# EAGLE library part LM305 (library ic)
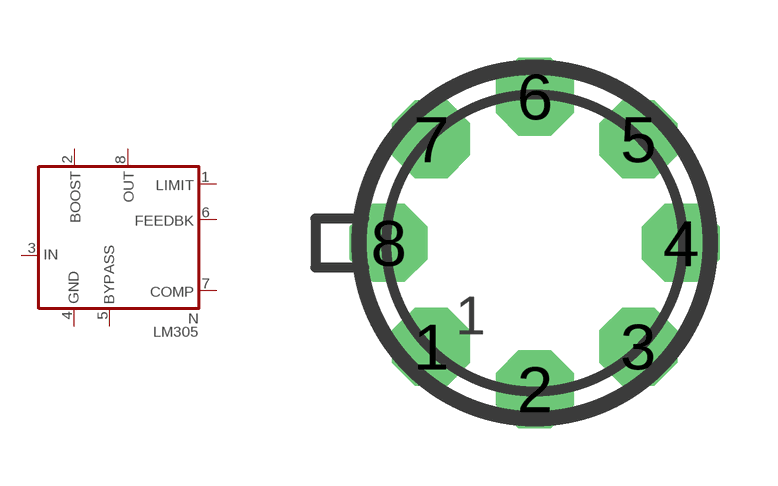
[diagram p37: symbol with the pads of TO99_8N; footprint TO99_8N]

Designator prefix N

## LM305  [TO99_8N]
1  LIMIT
2  BOOST  out
3  IN  pwr
4  GND
5  BYPASS
6  FEEDBK  in
7  COMP
8  OUT  out

## Footprint TO99_8N (pad centres in mm)
drill 0.813 pad 2.032 octagon: 1 -2.699,-2.699; 2 0,-3.81; 3 2.699,-2.699; 4 3.81,0; 5 2.699,2.699; 6 0,3.81; 7 -2.699,2.699; 8 -3.81,0